# Altium schematic symbol library LED.SchLib: 10 symbols
Pins are listed as number, name and electrical type; pins without a type are passive.

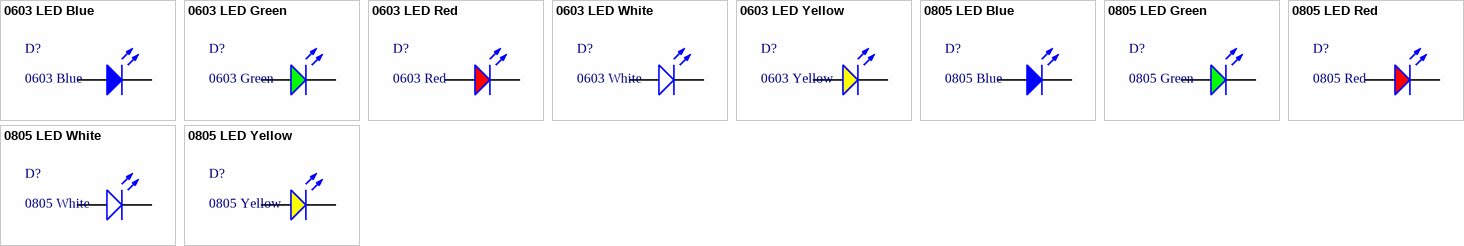
[diagram p0: symbols 0603 LED Blue to 0805 LED Yellow]

## 0603 LED Blue
designator D?, comment 0603 Blue
LED; SMT Type: Basic; ComponentLink1Description: 供应商链接; ComponentLink1URL: http://www.szlcsc.com/product/details_73150.html; Package: 0603; Supplier: LC; SuppliersPartNumber: C72041; Color: Blue; BOM_JLCPCB SMD: Yes; BOM_LCSC Assembly: Yes; JLCPCB_Mount: SMD
footprint 0603_LED_S1
pins: A, K

## 0603 LED Green
designator D?, comment 0603 Green
LED; Manufacturer: Everlight Elec; PartNumber: 19-217/GHC-YR1S2/3T; SMT Type: Basic; ComponentLink1Description: 供应商链接; ComponentLink1URL: http://www.szlcsc.com/product/details_73152.html; Package: 0603; Supplier: LC; SuppliersPartNumber: C72043; Color: Green; BOM_JLCPCB SMD: Yes; BOM_LCSC Assembly: Yes; JLCPCB_Mount: SMD; Datasheet: https://datasheet.lcsc.com/szlcsc/Everlight-Elec-19-217-GHC-YR1S2-3T_C72043.pdf
footprint 0603_LED_S1
pins: A, K

## 0603 LED Red
designator D?, comment 0603 Red
LED; SMT Type: Basic; ComponentLink1Description: 供应商链接; ComponentLink1URL: http://www.szlcsc.com/product/details_2659.html; Package: 0603; Supplier: LC; SuppliersPartNumber: C2286; Color: Red; BOM_JLCPCB SMD: Yes; BOM_LCSC Assembly: Yes; JLCPCB_Mount: SMD
footprint 0603_LED_S1
pins: A, K

## 0603 LED White
designator D?, comment 0603 White
LED; SMT Type: Basic; ComponentLink1Description: 供应商链接; ComponentLink1URL: http://www.szlcsc.com/product/details_2663.html; Package: 0603; Supplier: LC; SuppliersPartNumber: C2290; Color: White; BOM_JLCPCB SMD: Yes; BOM_LCSC Assembly: Yes; JLCPCB_Mount: SMD
footprint 0603_LED_S1
pins: A, K

## 0603 LED Yellow
designator D?, comment 0603 Yellow
LED; SMT Type: Basic; ComponentLink1Description: 供应商链接; ComponentLink1URL: http://www.szlcsc.com/product/details_73147.html; Package: 0603; Supplier: LC; SuppliersPartNumber: C72038; Color: Yellow; BOM_JLCPCB SMD: Yes; BOM_LCSC Assembly: Yes; JLCPCB_Mount: SMD
footprint 0603_LED_S1
pins: A, K

## 0805 LED Blue
designator D?, comment 0805 Blue
LED; SMT Type: Basic; ComponentLink1Description: 供应商链接; ComponentLink1URL: http://www.szlcsc.com/product/details_2666.html; Package: 0805; Supplier: LC; SuppliersPartNumber: C2293; Color: Blue; BOM_JLCPCB SMD: Yes; BOM_LCSC Assembly: Yes; JLCPCB_Mount: SMD
footprint 0805_LED_S1
pins: A, K

## 0805 LED Green
designator D?, comment 0805 Green
LED; SMT Type: Basic; ComponentLink1Description: 供应商链接; ComponentLink1URL: http://www.szlcsc.com/product/details_2670.html; Package: 0805; Supplier: LC; SuppliersPartNumber: C2297; Color: Green; BOM_JLCPCB SMD: Yes; BOM_LCSC Assembly: Yes; JLCPCB_Mount: SMD
footprint 0805_LED_S1
pins: A, K

## 0805 LED Red
designator D?, comment 0805 Red
LED; PartNumber: FC-2012HRK-620D; Manufacturer: Foshan NationStar Optoelectronics; SMT Type: Basic; ComponentLink1Description: 供应商链接; ComponentLink1URL: http://www.szlcsc.com/product/details_2668.html; Package: 0805; Supplier: LC; SuppliersPartNumber: C84256; Color: Red; BOM_JLCPCB SMD: Yes; BOM_LCSC Assembly: Yes; JLCPCB_Mount: SMD
footprint 0805_LED_S1
pins: A, K

## 0805 LED White
designator D?, comment 0805 White
LED; SMT Type: Basic; ComponentLink1Description: 供应商链接; ComponentLink1URL: http://www.szlcsc.com/product/details_35468.html; Package: 0805; Supplier: LC; SuppliersPartNumber: C34499; Color: White; BOM_JLCPCB SMD: Yes; BOM_LCSC Assembly: Yes; JLCPCB_Mount: SMD
footprint 0805_LED_S1
pins: A, K

## 0805 LED Yellow
designator D?, comment 0805 Yellow
LED; PartNumber: 17-21SUYC/TR8; SMT Type: Basic; ComponentLink1Description: 供应商链接; ComponentLink1URL: http://www.szlcsc.com/product/details_2669.html; Package: 0805; Supplier: LC; SuppliersPartNumber: C2296; Color: Yellow; BOM_JLCPCB SMD: Yes; BOM_LCSC Assembly: Yes; JLCPCB_Mount: SMD
footprint 0805_LED_S1
pins: A, K